# Altium footprint library RST5.PcbLib: 1 footprints
Each footprint in its own frame and in the unit in brackets; x right, y up, seen from the top. Pads: shape width x height; smd on the part's side, far side on the other; paste and mask are expansions set on the pad; w line width, h text height; cw(c..) or ccw(c..) is an arc to the next point about the centre after c.
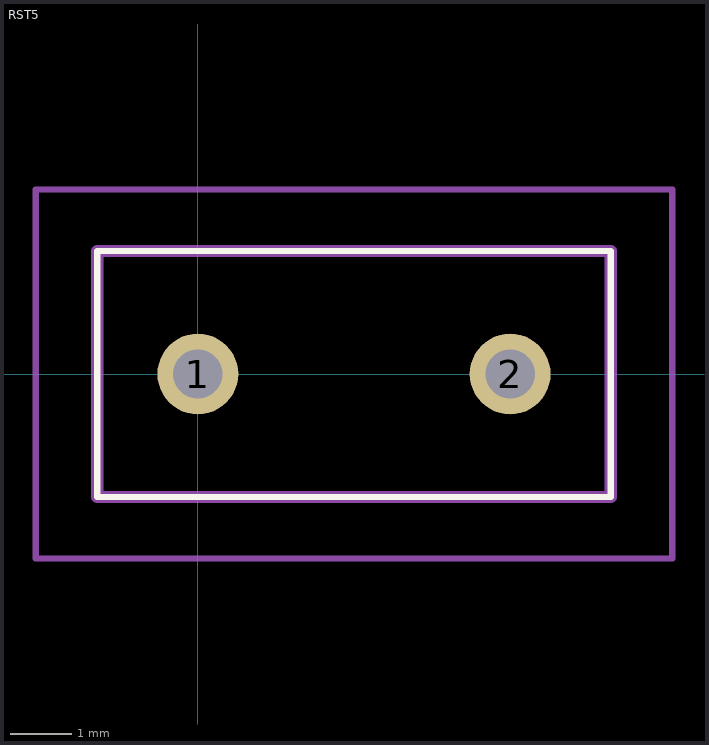
[diagram p0: the footprint, top view; thin cyan lines are the x and y axes]

## RST5 [mm]
pads (2):
  round 1.315 hole 0.8: 1(0,0) 2(5.08,0)
Top Overlay:
  lines w0.1: -1.635,-2 6.715,-2 6.715,2 -1.635,2 -1.635,-2
Mechanical 15:
  lines w0.2: -1.635,-2 6.715,-2 6.715,2 -1.635,2 -1.635,-2
Mechanical 20:
  lines w0.1: -2.635,-3 7.715,-3 7.715,3 -2.635,3 -2.635,-3
3D body "RST5.stp": height 5.8, standoff -4.65, extent -10,-3.376 10,3.376